# EAGLE library part WE-FLEX_ER11/5 (library Wurth_Power Magnetics_WE-FLEX)
WE-FLEX Flexible Transformer for DC/DC Converter Characteristics Transformer with 6 identical windings 4 sizes with 5 different lengths of air gap each Insulation test voltage 500 VAC Low leakage inductance Operating temperature: –40 ºC to +125 ºC By using different circuits more than 375 transformer solutions and about 125 choke solutions possible. Consequently, quick prototyping possibilities Applications All kind of switching regulators -Flyback converters -Forward converters -Push-pull converters -Step-up/step-down converters -SEPIC converter <https://katalog.we-online.com/media/images/v2/o14787v209%20Family_WE-FLEX.jpg> Details see: https://katalog.we-online.com/en/pbs/WE-FLEX Updated by Yingchun, Shan 2019-08-15 2019 (C) Wurth Elektronik
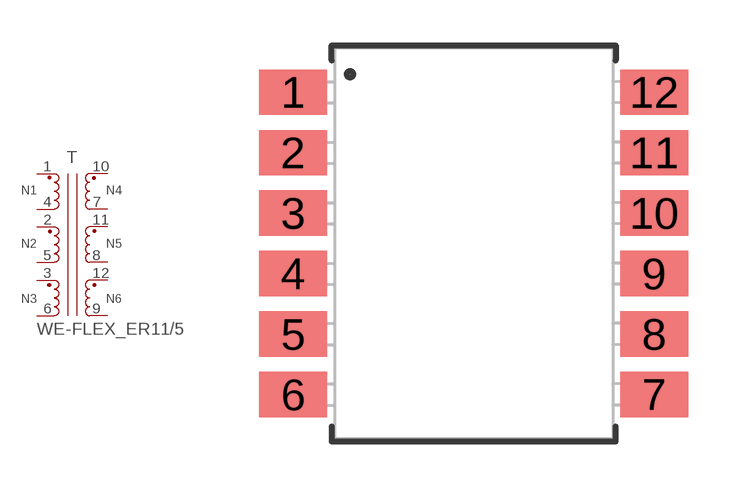
[diagram p3: symbol with the pads of WE-FLEX_ER11/5; footprint WE-FLEX_ER11/5]

Designator prefix T

## WE-FLEX_ER11/5_749196101 (DATASHEET-URL: https://katalog.we-online.com/pbs/datasheet/749196101.pdf; IRBASE: 0.55A; ISATBASE: 0.01A; LSBASE: 0.21uH; N: 1:1:1:1:1:1; PART-NUMBER: 749196101; RDCBASE: 344mOhm; VALUE: 198.6uH; VOLTAGE-USECONDBASE: 32.9uVs; VT: 500 V (AC)), WE-FLEX_ER11/5_749196111 (DATASHEET-URL: https://katalog.we-online.com/pbs/datasheet/749196111.pdf; IRBASE: 0.55A; ISATBASE: 0.22A; LSBASE: 0.21uH; N: 1:1:1:1:1:1; PART-NUMBER: 749196111; RDCBASE: 344mOhm; VALUE: 27.4uH; VOLTAGE-USECONDBASE: 32.9uVs; VT: 500 V (AC)), WE-FLEX_ER11/5_749196121 (DATASHEET-URL: https://katalog.we-online.com/pbs/datasheet/749196121.pdf; IRBASE: 0.55A; ISATBASE: 0.54A; LSBASE: 0.21uH; N: 1:1:1:1:1:1; PART-NUMBER: 749196121; RDCBASE: 344mOhm; VALUE: 14.7uH; VOLTAGE-USECONDBASE: 32.9uVs; VT: 500 V (AC)), WE-FLEX_ER11/5_749196131 (DATASHEET-URL: https://katalog.we-online.com/pbs/datasheet/749196131.pdf; IRBASE: 0.55A; ISATBASE: 0.73A; LSBASE: 0.21uH; N: 1:1:1:1:1:1; PART-NUMBER: 749196131; RDCBASE: 344mOhm; VALUE: 10.9uH; VOLTAGE-USECONDBASE: 32.9uVs; VT: 500 V (AC)), WE-FLEX_ER11/5_749196141 (DATASHEET-URL: https://katalog.we-online.com/pbs/datasheet/749196141.pdf; IRBASE: 0.55A; ISATBASE: 0.96A; LSBASE: 0.21uH; N: 1:1:1:1:1:1; PART-NUMBER: 749196141; RDCBASE: 344mOhm; VALUE: 8.5uH; VOLTAGE-USECONDBASE: 32.9uVs; VT: 500 V (AC))  [WE-FLEX_ER11/5]
1  1  pas
2  3  pas
3  5  pas
4  2  pas
5  4  pas
6  6  pas
7  11  pas
8  9  pas
9  7  pas
10  12  pas
11  10  pas
12  8  pas

## Footprint WE-FLEX_ER11/5 (pad centres in mm)
WE-FLEX Flexible Transformer for DC/DC Converter Size: ER11/5 SMD 12Pin
smd 2.25 x 1.5: 1 -5.975,5; 2 -5.975,3; 3 -5.975,1; 4 -5.975,-1; 5 -5.975,-3; 6 -5.975,-5; 7 5.975,-5; 8 5.975,-3; 9 5.975,-1; 10 5.975,1; 11 5.975,3; 12 5.975,5